# Altium footprint library Connector WF Series Pad.PcbLib: 38 footprints (part 1 of 3)
Each footprint in its own frame and in the unit in brackets; x right, y up, seen from the top. Pads: shape width x height; smd on the part's side, far side on the other; paste and mask are expansions set on the pad; w line width, h text height; cw(c..) or ccw(c..) is an arc to the next point about the centre after c.
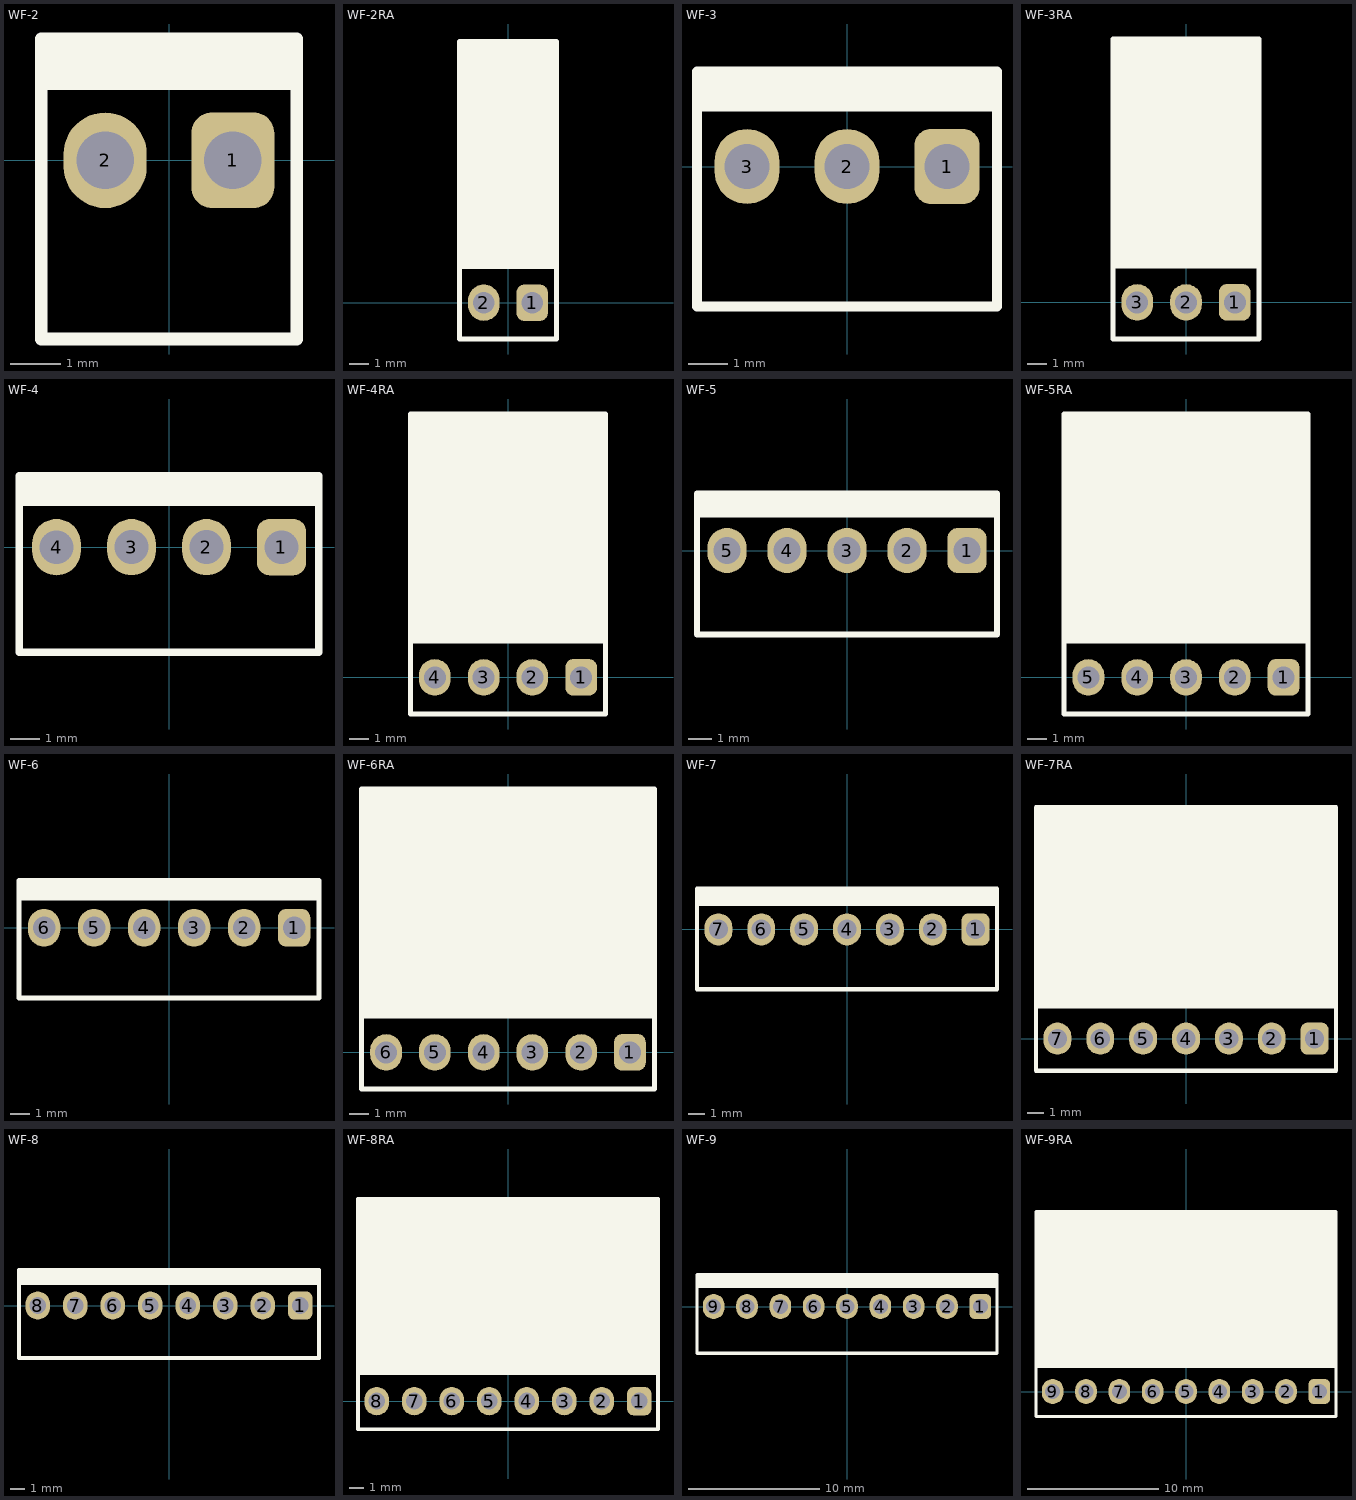
[diagram p0: the footprints below, top view; thin cyan lines are the x and y axes]

## WF-2 [mil] "PCB Vertical Connector 2-Pin"
pads (2):
  rrect50% 65x75 hole 45: 1(50,0)
  oval 65x75 hole 45: 2(-50,0)
Top Overlay:
  rectangle: -100,60 100,95
  lines w10: -100,60 100,60 ; -100,-140 -100,95 100,95 100,-140 -100,-140
3D body "DS1070-2 (WF-2 CONNFLY).step": height 449.82, standoff -128.92, extent -99.99,-137.79 100.01,94.49

## WF-2RA [mil] "PCB Rigth Angle Connector 2-Pin"
pads (2):
  rrect50% 65x75 hole 45: 1(50,0)
  oval 65x75 hole 45: 2(-50,0)
Top Overlay:
  rectangle: -100,75 100,545
  lines w10: -100,75 100,75 ; -100,-75 -100,540 100,540 100,-75 -100,-75
3D body "DS1070-2MR (WF-2RA CONNFLY).step": height 233.28, standoff -132.86, extent -99.99,-12.6 100.01,542.52

## WF-3 [mil] "PCB Vertical Connector 3-Pin"
pads (3):
  rrect50% 65x75 hole 45: 1(100,0)
  oval 65x75 hole 45: 2(0,0) 3(-100,0)
Top Overlay:
  rectangle: -150,60 150,95
  lines w10: -150,60 150,60 ; -150,-140 -150,95 150,95 150,-140 -150,-140
3D body "DS1070-3 (WF-3 CONNFLY).step": height 449.82, standoff -128.92, extent -149.99,-137.79 150.01,94.5

## WF-3RA [mil] "PCB Rigth Angle Connector 3-Pin"
pads (3):
  rrect50% 65x75 hole 45: 1(100,0)
  oval 65x75 hole 45: 2(0,0) 3(-100,0)
Top Overlay:
  rectangle: -150,75 150,540
  lines w10: -150,75 150,75 ; -150,-75 150,-75 150,540 -150,540 -150,-75
3D body "DS1070-3MR (WF-3RA CONNFLY).step": height 233.28, standoff -132.86, extent -149.99,-12.59 150.01,542.52

## WF-4 [mil] "PCB Vertical Connector 4-Pin"
pads (4):
  rrect50% 65x75 hole 45: 1(150,0)
  oval 65x75 hole 45: 2(50,0) 3(-50,0) 4(-150,0)
Top Overlay:
  rectangle: -200,60 200,95
  lines w10: -200,60 200,60 ; -200,-140 200,-140 200,95 -200,95 -200,-140
3D body "DS1070-4 (WF-4 CONNFLY).step": height 449.82, standoff -128.92, extent -200,-140 200,92.28

## WF-4RA [mil] "PCB Rigth Angle Connector 4-Pin"
pads (4):
  rrect50% 65x75 hole 45: 1(150,0)
  oval 65x75 hole 45: 2(50,0) 3(-50,0) 4(-150,0)
Top Overlay:
  rectangle: -200,75 200,540
  lines w10: -200,75 200,75 ; -200,-75 -200,540 200,540 200,-75 -200,-75
3D body "DS1070-4MR (WF-4RA CONNFLY).step": height 233.28, standoff -132.86, extent -200,-14.8 200,540.31

## WF-5 [mil] "PCB Vertical Connector 5-Pin"
pads (5):
  rrect50% 65x75 hole 45: 1(200,0)
  oval 65x75 hole 45: 2(100,0) 3(0,0) 4(-100,0) 5(-200,0)
Top Overlay:
  rectangle: -250,60 250,95
  lines w10: -250,60 250,60 ; -250,-140 250,-140 250,95 -250,95 -250,-140
3D body "DS1070-5 (WF-5 CONNFLY).step": height 449.82, standoff -128.92, extent -250,-137.29 250,95

## WF-5RA [mil] "PCB Rigth Angle Connector 5-Pin"
pads (5):
  rrect50% 65x75 hole 45: 1(200,0)
  oval 65x75 hole 45: 2(100,0) 3(0,0) 4(-100,0) 5(-200,0)
Top Overlay:
  rectangle: -250,75 250,540
  lines w10: -250,75 250,75 ; -250,-75 -250,540 250,540 250,-75 -250,-75
3D body "DS1070-5MR (WF-5RA CONNFLY).step": height 233.28, standoff -132.86, extent -250,-12.09 250,543.03

## WF-6 [mil] "PCB Vertical Connector 6-Pin"
pads (6):
  rrect50% 65x75 hole 45: 1(250,0)
  oval 65x75 hole 45: 2(150,0) 3(50,0) 4(-50,0) 5(-150,0) 6(-250,0)
Top Overlay:
  rectangle: -300,60 300,95
  lines w10: -300,60 300,60 ; -300,-140 300,-140 300,95 -300,95 -300,-140
3D body "DS1070-6 (WF-6 CONNFLY).step": height 449.82, standoff -128.92, extent -300,-140 300,92.28

## WF-6RA [mil] "PCB Rigth Angle Connector 6-Pin"
pads (6):
  rrect50% 65x75 hole 45: 1(250,0)
  oval 65x75 hole 45: 2(150,0) 3(50,0) 4(-50,0) 5(-150,0) 6(-250,0)
Top Overlay:
  rectangle: -300,75 300,540
  lines w10: -300,75 300,75 ; -300,-75 -300,540 300,540 300,-75 -300,-75
3D body "DS1070-6MR (WF-6RA CONNFLY).step": height 233.28, standoff -132.86, extent -300,-14.8 300,540.31

## WF-7 [mil] "PCB Vertical Connector 7-Pin"
pads (7):
  rrect50% 65x75 hole 45: 1(300,0)
  oval 65x75 hole 45: 2(200,0) 3(100,0) 4(0,0) 5(-100,0) 6(-200,0) 7(-300,0)
Top Overlay:
  rectangle: -350,60 350,95
  lines w10: -350,60 350,60 ; -350,-140 350,-140 350,95 -350,95 -350,-140
3D body "DS1070-7 (WF-7 CONNFLY).step": height 449.82, standoff -128.92, extent -350,-140 350,92.28

## WF-7RA [mil] "PCB Rigth Angle Connector 7-Pin"
pads (7):
  rrect50% 65x75 hole 45: 1(300,0)
  oval 65x75 hole 45: 2(200,0) 3(100,0) 4(0,0) 5(-100,0) 6(-200,0) 7(-300,0)
Top Overlay:
  rectangle: -350,75 350,540
  lines w10: -350,75 350,75 ; -350,-75 350,-75 350,540 -350,540 -350,-75
3D body "DS1070-7MR (WF-7RA CONNFLY).step": height 233.28, standoff -132.86, extent -350,-14.8 350,540.31

## WF-8 [mil] "PCB Vertical Connector 8-Pin"
pads (8):
  rrect50% 65x75 hole 45: 1(350,0)
  oval 65x75 hole 45: 2(250,0) 3(150,0) 4(50,0) 5(-50,0) 6(-150,0) 7(-250,0) 8(-350,0)
Top Overlay:
  rectangle: -400,60 400,95
  lines w10: -400,60 400,60 ; -400,-140 -400,95 400,95 400,-140 -400,-140
3D body "DS1070-8 (WF-8 CONNFLY).step": height 449.82, standoff -128.92, extent -400,-140 400,92.28

## WF-8RA [mil] "PCB Rigth Angle Connector 8-Pin"
pads (8):
  rrect50% 65x75 hole 45: 1(350,0)
  oval 65x75 hole 45: 2(250,0) 3(150,0) 4(50,0) 5(-50,0) 6(-150,0) 7(-250,0) 8(-350,0)
Top Overlay:
  rectangle: -400,75 400,540
  lines w10: -400,75 400,75 ; -400,-75 400,-75 400,540 -400,540 -400,-75
3D body "DS1070-8MR (WF-8RA CONNFLY).step": height 233.28, standoff -132.86, extent -400,-14.8 400,540.31

## WF-9 [mil] "PCB Vertical Connector 9-Pin"
pads (9):
  rrect50% 65x75 hole 45: 1(400,0)
  oval 65x75 hole 45: 2(300,0) 3(200,0) 4(100,0) 5(0,0) 6(-100,0) 7(-200,0) 8(-300,0) 9(-400,0)
Top Overlay:
  rectangle: -450,60 450,95
  lines w10: -450,60 450,60 ; -450,-140 450,-140 450,95 -450,95 -450,-140
3D body "DS1070-9 (WF-9 CONNFLY).step": height 449.82, standoff -128.92, extent -450,-140 450,92.28

## WF-9RA [mil] "PCB Rigth Angle Connector 9-Pin"
pads (9):
  rrect50% 65x75 hole 45: 1(400,0)
  oval 65x75 hole 45: 2(300,0) 3(200,0) 4(100,0) 5(0,0) 6(-100,0) 7(-200,0) 8(-300,0) 9(-400,0)
Top Overlay:
  rectangle: -450,75 450,540
  lines w10: -450,75 450,75 ; -450,-75 -450,540 450,540 450,-75 -450,-75
3D body "DS1070-9MR (WF-9RA CONNFLY).step": height 233.28, standoff -132.86, extent -450,-14.8 450,540.31